# Altium footprint library Other Components.PcbLib: 33 footprints (part 3 of 3)
Each footprint in its own frame and in the unit in brackets; x right, y up, seen from the top. Pads: shape width x height; smd on the part's side, far side on the other; paste and mask are expansions set on the pad; w line width, h text height; cw(c..) or ccw(c..) is an arc to the next point about the centre after c.
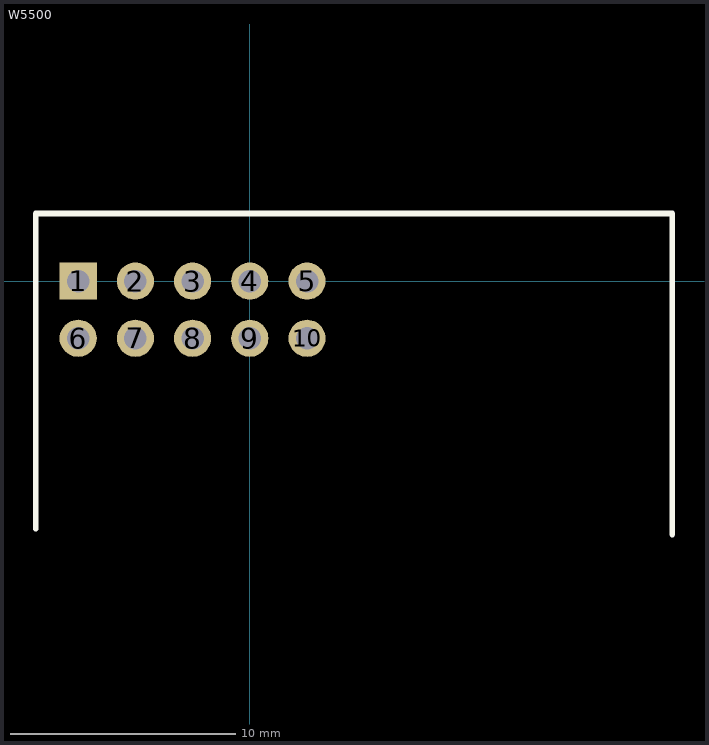
[diagram p2: the footprint, top view; thin cyan lines are the x and y axes]

## W5500 [mm]
pads (10):
  rect 1.65x1.65 hole 1 mask+0.05: 1(-7.62,0)
  round 1.65 hole 1 mask+0.05: 2(-5.08,0) 3(-2.54,0) 4(0,0) 5(2.54,0) 6(-7.62,-2.54) 7(-5.08,-2.54) 8(-2.54,-2.54) 9(0,-2.54) 10(2.54,-2.54)
Top Overlay:
  lines w0.25: -9.5,-11 -9.5,3 18.75,3 18.75,-11.25
3D body "W5500 ethernet module.STEP": height 18.05, standoff -6, extent -9.26,-56.162 18.64,2.738